# Altium schematic symbol library PIC16LF1503.Schlib: 1 symbol
Pins are listed as number, name and electrical type; pins without a type are passive.

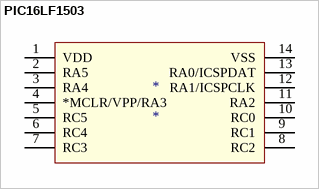
[diagram p0: symbol PIC16LF1503]

## PIC16LF1503
designator *
pins: 1 VDD, 2 RA5, 3 RA4, 4 *MCLR/VPP/RA3, 5 RC5, 6 RC4, 7 RC3, 8 RC2, 9 RC1, 10 RC0, 11 RA2, 12 RA1/ICSPCLK, 13 RA0/ICSPDAT, 14 VSS